# EAGLE library part LMZ14201 (library RoboJackets-PowerICs)
Non-Isolated PoL Module DC DC Converter 1 Output 5 ~ 30V 1A 6V - 42V Input Datasheet <https://www.ti.com/lit/ds/symlink/lmz14201h.pdf?HQS=dis-dk-null-digikeymode-dsf-pf-null-wwe&ts=1643856036056&ref_url=https%253A%252F%252Fwww.ti.com%252Fgeneral%252Fdocs%252Fsuppproductinfo.tsp%253FdistId%253D10%2526gotoUrl%253Dhttps%253A%252F%252Fwww.ti.com%252Flit%252Fgpn%252Flmz14201h>
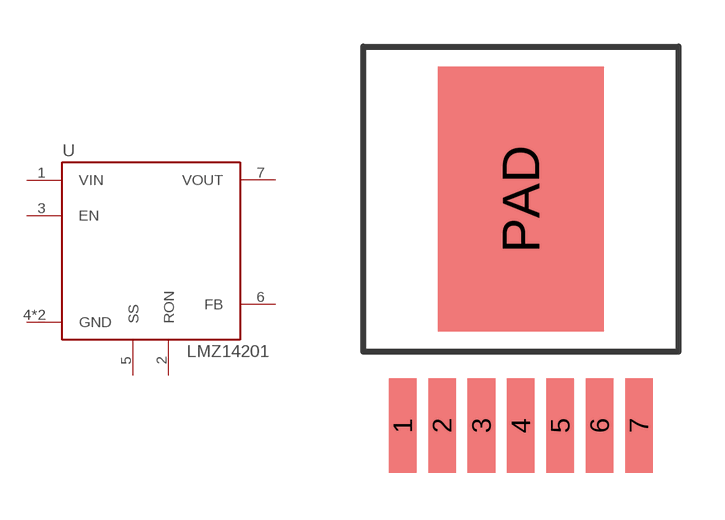
[diagram p2: symbol with the pads of TO-PMOD-7; footprint TO-PMOD-7]

Designator prefix U

## LMZ14201 (DIGIKEY: LMZ14201HTZX/NOPBCT-ND; MPN: LMZ14201HTZX/NOPB)  [TO-PMOD-7]
1  VIN
2  RON
3  EN
4  GND
5  SS
6  FB
7  VOUT
PAD  GND

## Footprint TO-PMOD-7 (pad centres in mm)
smd 0.89 x 3.06: 1 -3.81,-7.305; 2 -2.54,-7.305; 3 -1.27,-7.305; 4 0,-7.305; 5 1.27,-7.305; 6 2.54,-7.305; 7 3.81,-7.305
smd 5.35 x 8.54: PAD 0,0